# Altium footprint library BLM_2017.PcbLib: 7 footprints
Each footprint in its own frame and in the unit in brackets; x right, y up, seen from the top. Pads: shape width x height; smd on the part's side, far side on the other; paste and mask are expansions set on the pad; w line width, h text height; cw(c..) or ccw(c..) is an arc to the next point about the centre after c.
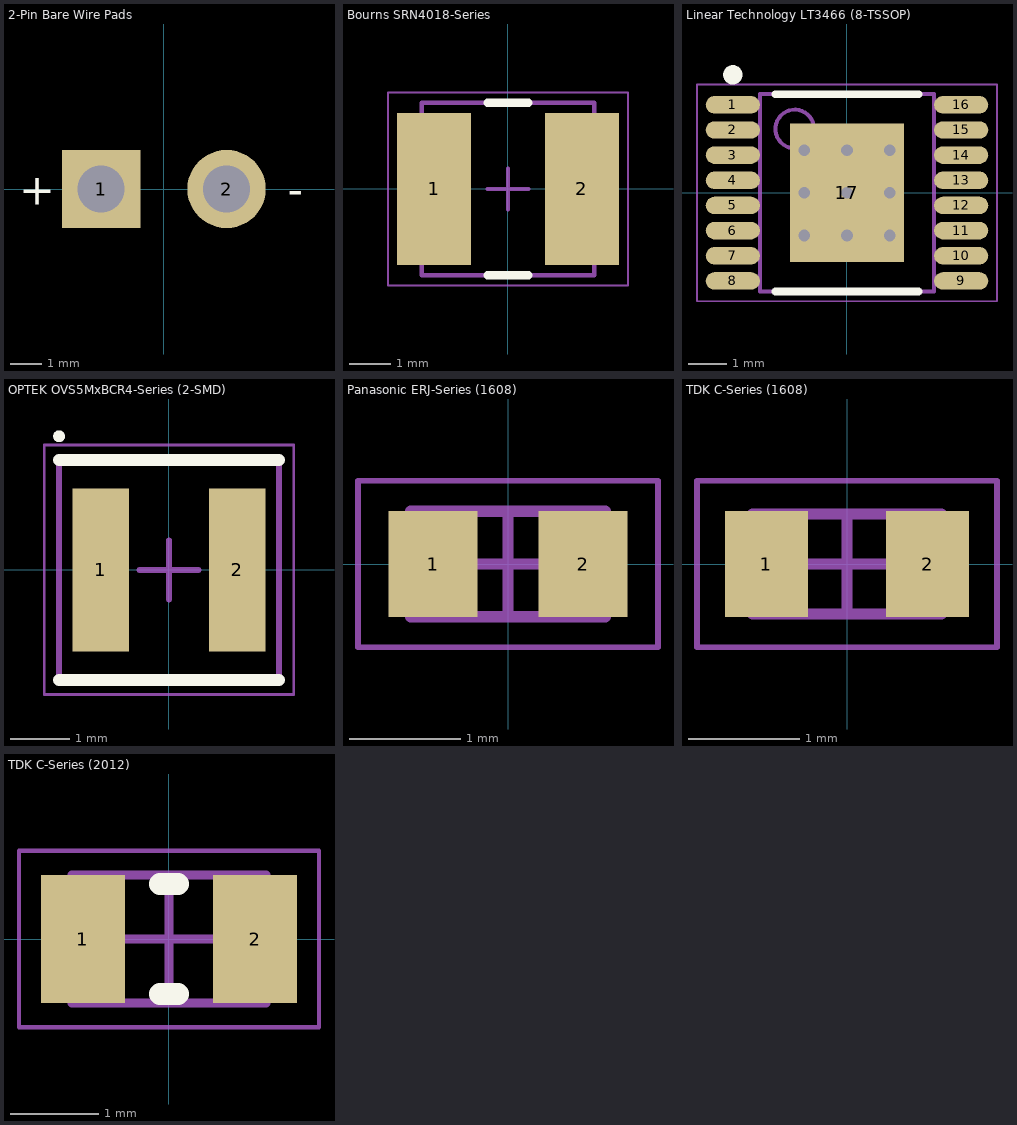
[diagram p0: the footprints below, top view; thin cyan lines are the x and y axes]

## 2-Pin Bare Wire Pads [mm] "2-Pin Bare Wire Pads"
pads (2):
  rect 2.5x2.5 hole 1.5: 1(-2,0)
  round 2.5 hole 1.5: 2(2,0)
Top Overlay:
  text "-" at 3.95,-0.5 h1
  text "+" at -4.625,-0.5 h1

## Bourns SRN4018-Series [mm] "Semi-Shielded Power Inductor"
height 1.8
pads (2):
  rect 1.8x3.7 smd: 1(-1.8,0) 2(1.8,0)
Top Overlay:
  lines w0.2: -0.5,-2.1 0.5,-2.1 ; -0.5,2.1 0.5,2.1
Mechanical 13:
  lines w0.1: -2.1,-2.1 -2.1,2.1 2.1,2.1 2.1,-2.1 -2.1,-2.1
Mechanical 15:
  lines w0.05: -2.925,-2.35 -2.925,2.35 2.925,2.35 2.925,-2.35 -2.925,-2.35
  lines w0.1: -0.5,0 0.5,0 ; 0,-0.5 0,0.5
3D body: height 1.8, standoff 0, extent -2.1,-2.1 2.1,2.1

## Linear Technology LT3466 (8-TSSOP) [mm] "2-Channel Step-Up LED Driver"
height 1.1
pads (17):
  oval 1.4x0.45 smd: 1(-2.95,2.275) 2(-2.95,1.625) 3(-2.95,0.975) 4(-2.95,0.325) 5(-2.95,-0.325) 6(-2.95,-0.975) 7(-2.95,-1.625) 8(-2.95,-2.275) 9(2.95,-2.275) 10(2.95,-1.625) 11(2.95,-0.975) 12(2.95,-0.325) 13(2.95,0.325) 14(2.95,0.975) 15(2.95,1.625) 16(2.95,2.275)
  rect 2.94x3.58 smd: 17(0,0)
via 1.1,-1.1 diameter 0.5 hole 0.3
via 0,-1.1 diameter 0.5 hole 0.3
via -1.1,-1.1 diameter 0.5 hole 0.3
via 1.1,0 diameter 0.5 hole 0.3
via 0,0 diameter 0.5 hole 0.3
via -1.1,0 diameter 0.5 hole 0.3
via 1.1,1.1 diameter 0.5 hole 0.3
via 0,1.1 diameter 0.5 hole 0.3
via -1.1,1.1 diameter 0.5 hole 0.3
Top Overlay:
  circle w0.25: c-2.95,3.05 r0.125
  lines w0.2: -1.85,-2.55 1.85,-2.55 ; -1.85,2.55 1.85,2.55
Mechanical 13:
  circle w0.1: c-1.35,1.65 r0.5
  lines w0.1: -2.25,-2.55 2.25,-2.55 2.25,2.55 -2.25,2.55 -2.25,-2.55
Mechanical 15:
  lines w0.05: -3.875,-2.8 3.875,-2.8 3.875,2.8 -3.875,2.8 -3.875,-2.8
  lines w0.1: -0.5,0 0.5,0 ; 0,-0.5 0,0.5
3D body: height 1.1, standoff 0.05, extent -2.25,-2.55 2.25,2.55

## OPTEK OVS5MxBCR4-Series (2-SMD) [mm] "0.5W Chip LED"
height 1.2
pads (2):
  rect 0.95x2.75 smd: 1(-1.15,0) 2(1.15,0)
Top Overlay:
  circle w0.1: c-1.85,2.25 r0.05
  lines w0.2: -1.85,-1.85 1.85,-1.85 ; -1.85,1.85 1.85,1.85
Mechanical 13:
  lines w0.1: -1.85,-1.85 -1.85,1.85 1.85,1.85 1.85,-1.85 -1.85,-1.85
Mechanical 15:
  lines w0.05: -2.1,-2.1 -2.1,2.1 2.1,2.1 2.1,-2.1 -2.1,-2.1
  lines w0.1: -0.5,0 0.5,0 ; 0,-0.5 0,0.5
3D body: height 1.2, standoff 0, extent -1.85,-1.85 1.85,1.85

## Panasonic ERJ-Series (1608) [mm] "Thick Film Chip Resistor"
height 0.55
pads (2):
  rect 0.8x0.95 smd: 1(-0.675,0) 2(0.675,0)
Mechanical 13:
  lines w0.1: -0.875,-0.475 0.875,-0.475 0.875,0.475 -0.875,0.475 -0.875,-0.475
Mechanical 15:
  lines w0.05: -1.35,-0.75 1.35,-0.75 1.35,0.75 -1.35,0.75 -1.35,-0.75
  lines w0.1: -0.475,0 0.475,0 ; 0,-0.475 0,0.475
3D body: height 0.55, standoff 0, extent 0.575,-0.475 0.875,0.475
3D body: height 0.55, standoff 0, extent -0.875,-0.475 -0.575,0.475
3D body: height 0.55, standoff 0, extent -0.575,-0.475 0.575,0.475

## TDK C-Series (1608) [mm] "Multilayer Ceramic Chip Capacitor"
height 1.25
pads (2):
  rect 0.75x0.95 smd: 1(-0.725,0) 2(0.725,0)
Mechanical 13:
  lines w0.1: -0.85,-0.45 0.85,-0.45 0.85,0.45 -0.85,0.45 -0.85,-0.45
Mechanical 15:
  lines w0.05: -1.35,-0.75 1.35,-0.75 1.35,0.75 -1.35,0.75 -1.35,-0.75
  lines w0.1: -0.45,0 0.45,0 ; 0,-0.45 0,0.45
3D body: height 1.25, standoff 0, extent 0.55,-0.45 0.85,0.45
3D body: height 1.25, standoff 0, extent -0.85,-0.45 -0.55,0.45
3D body: height 1.25, standoff 0, extent -0.55,-0.45 0.55,0.45

## TDK C-Series (2012) [mm] "Multilayer Ceramic Chip Capacitor"
height 1.25
pads (2):
  rect 0.95x1.45 smd: 1(-0.975,0) 2(0.975,0)
Top Overlay:
  lines w0.25: -0.1,-0.625 0.1,-0.625 ; -0.1,0.625 0.1,0.625
Mechanical 13:
  lines w0.1: -1.1,-0.725 1.1,-0.725 1.1,0.725 -1.1,0.725 -1.1,-0.725
Mechanical 15:
  lines w0.05: -1.7,-1 1.7,-1 1.7,1 -1.7,1 -1.7,-1
  lines w0.1: -0.5,0 0.5,0 ; 0,-0.5 0,0.5
3D body: height 1.25, standoff 0, extent 0.8,-0.725 1.1,0.725
3D body: height 1.25, standoff 0, extent -1.1,-0.725 -0.8,0.725
3D body: height 1.25, standoff 0, extent -0.8,-0.725 0.8,0.725